# EAGLE library part SN65HVD23*? (library SN65HVD230)
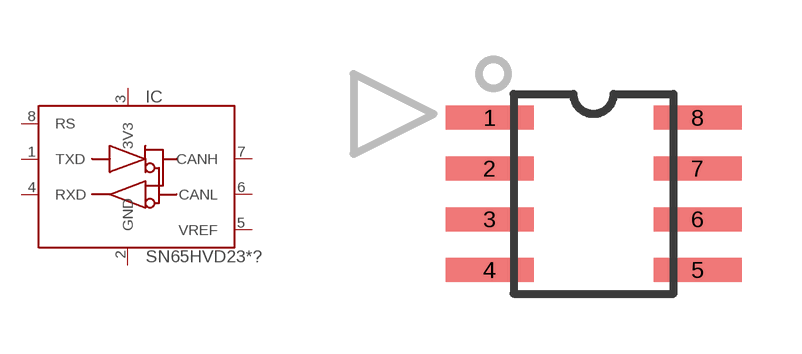
[diagram p0: symbol with the pads of SOIC8; footprint SOIC8]

Designator prefix IC

## SN65HVD230D (MARK: VP230; MF: Texas Instruments; MPN: SNHVD230D), SN65HVD231D (MARK: VP231; MF: Texas Instruments; MPN: SNHVD231D), SN65HVD232D (MARK: VP232; MF: Texas Instruments; MPN: SNHVD232D)  [SOIC8]
1  TXD  in
2  GND  pwr
3  3V3  pwr
4  RXD  out
5  VREF  out
6  CANL
7  CANH
8  RS

## Footprint SOIC8 (pad centres in mm)
smd 2.2 x 0.6: 1 -2.6,1.905; 2 -2.6,0.635; 3 -2.6,-0.635; 4 -2.6,-1.905; 5 2.6,-1.905; 6 2.6,-0.635; 7 2.6,0.635; 8 2.6,1.905